# Altium schematic symbol library DSC1123CI2-125.0000T.SchLib: 1 symbol
Pins are listed as number, name and electrical type; pins without a type are passive.

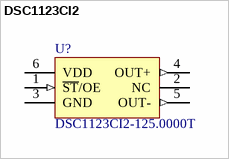
[diagram p0: symbol DSC1123CI2]

## DSC1123CI2
designator U?, comment DSC1123CI2-125.0000T
DSC1123CI2-125.0000T (Microchip)
footprint PSON105P320X250X90-6N
pins: 1 ~{ST}/OE (in), 2 NC, 3 GND (power), 4 OUT+ (out), 5 OUT- (out), 6 VDD (power)